# Altium integrated library TI_Logic_Flip-Flop,Latch,Register.IntLib: 2598 symbols (part 33 of 122)
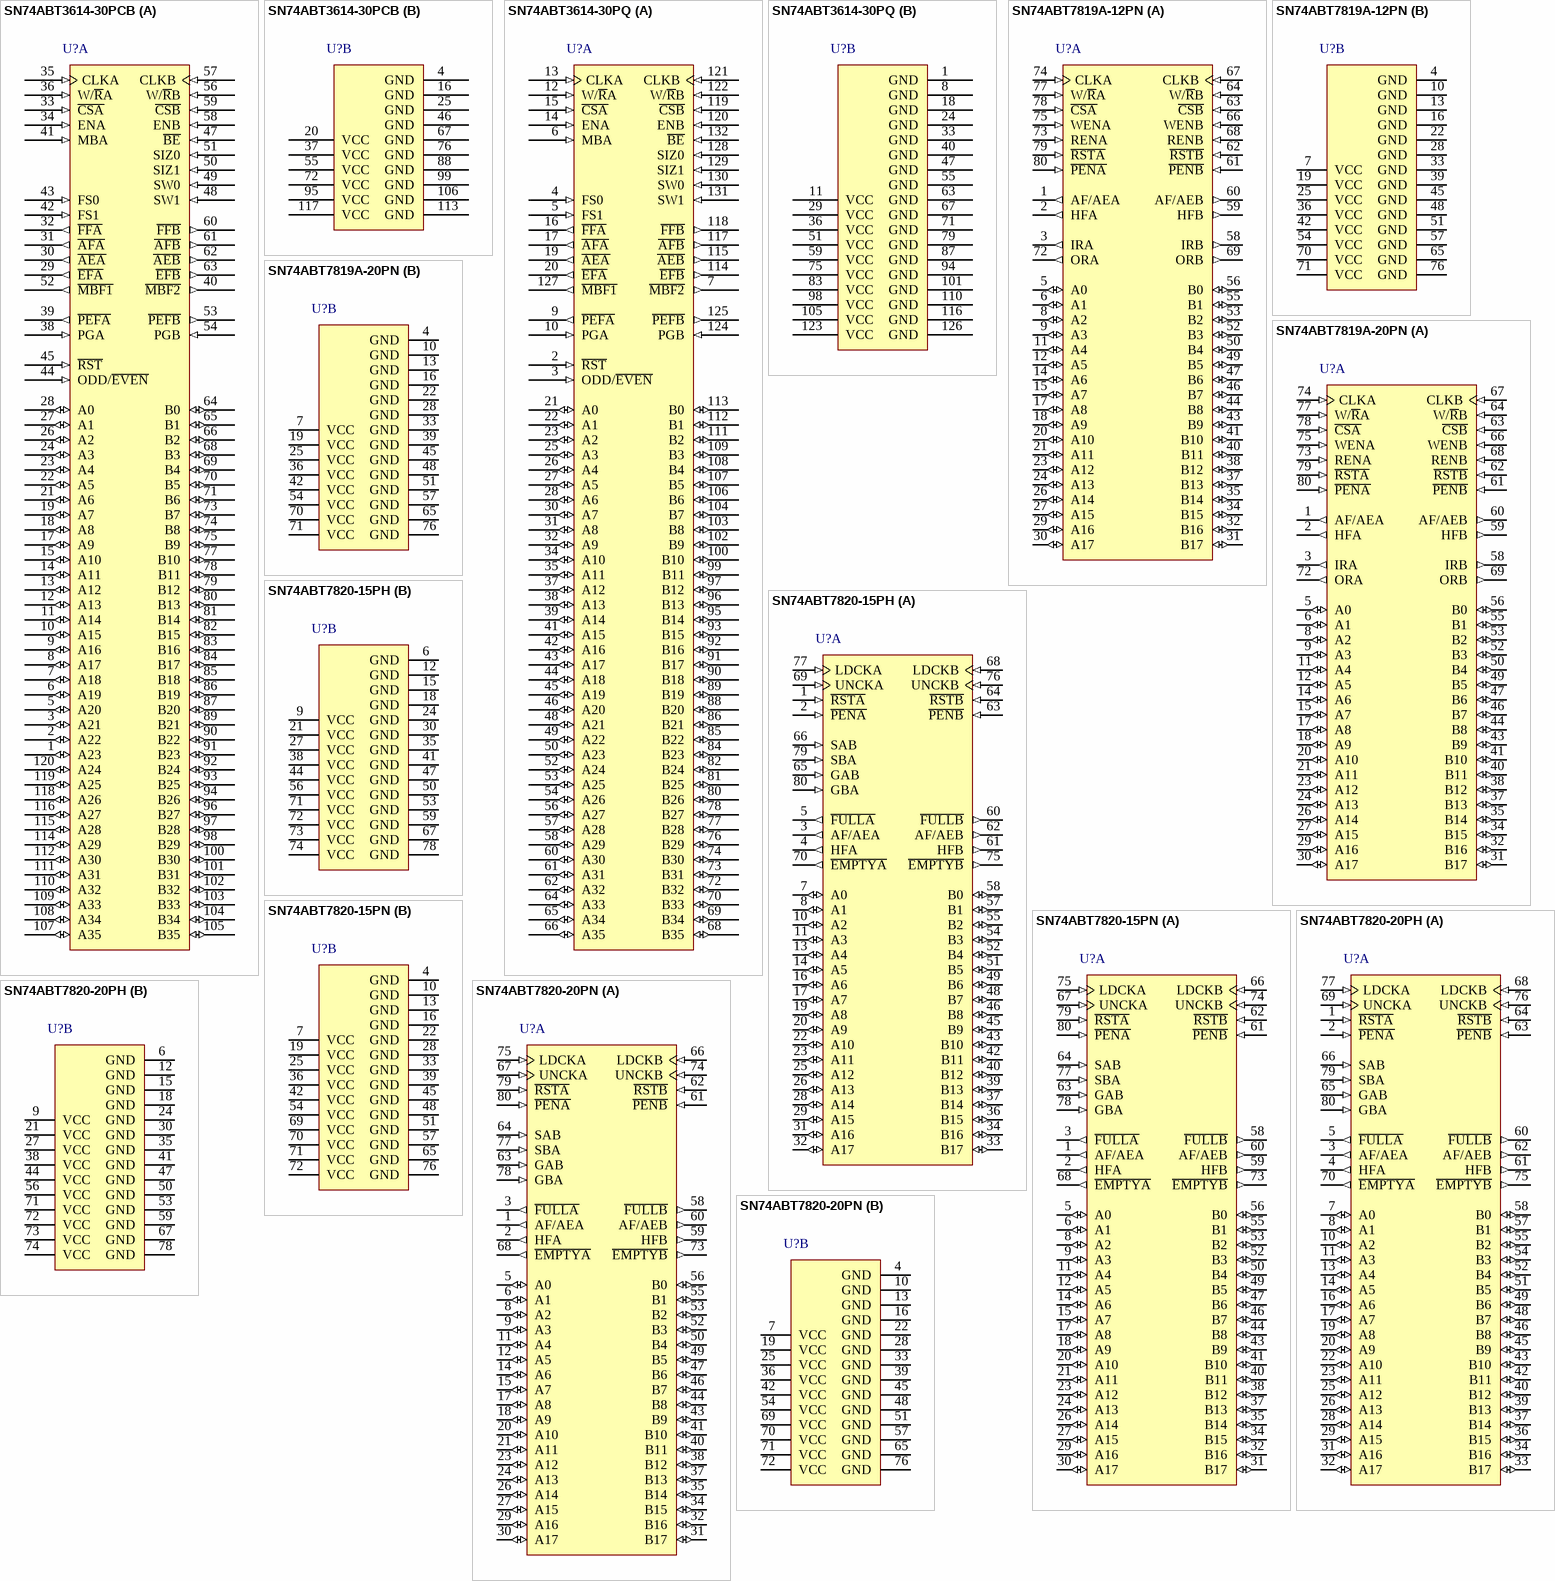
[diagram p171: symbols SN74ABT3614-30PCB to SN74ABT7820-20PN]

## SN74ABT7820-15PH
designator U?
512 x 18 x 2 bidirectional asynchronous FIFO memory, PH0080A, JEDEC TRAY (10+1); Generic Part Number: SN74ABT7820; Manufacturer: Texas Instruments; PartNumber: SN74ABT7820-15PH; Vcc range(V): 4.5 to 5.5; Fmax(MHz): 67; Voltage Nodes(V): 5; Sync/Async: A; Rating: Catalog; Output Drive(mA): -0.5; DatasheetVersion: SCAS206D; PackageReference: PH0080A; Depth: 512; Width: 18; ComponentLink1Description: Manufacturer URL; ComponentLink1URL: http://www.ti.com/; ComponentLink2Description: Datasheet; ComponentLink2URL: http://www.ti.com/lit/ds/symlink/sn74abt7820.pdf; ComponentLink3Description: Package Specification; ComponentLink3URL: http://www.ti.com/lit/ml/mqfp010/mqfp010.pdf
footprint PH0080A_N (QFP, 80-Leads, Body 20x14mm, Pitch 1mm, IPC Medium Density)
footprint PH0080A_M (QFP, 80-Leads, Body 20x14mm, Pitch 1mm, IPC Low Density)
footprint PH0080A_L (QFP, 80-Leads, Body 20x14mm, Pitch 1mm, IPC High Density)
part A pins: 1 ~{RSTA} (in) "FIFO A reset. A low level on R\S\T\A\ resets FIFO A forcing E\M\P\T\Y\A\ low, HFA low, F\U\L\L\A\ high, and AF/AEA high.", 2 ~{PENA} (in) "FIFO A program enable. After reset and before a word is written into FIFO A, the binary value on A0-A7 is latched as an AF/AEA offset value when P\E\N\A\ is low and LDCKA is high.", 3 AF/AEA (out) "FIFO A almost-full/almost-empty flag. Depth-offset values can be programmed for AF/AEA or the default value of 128 can be used for both the almost-empty offset (X) and the almost-full offset (Y). AF/AEA is high when FIFO A (See Datasheet)", 4 HFA (out) "FIFO A half-full flag. HFA is high when FIFO A contains 256 or more words and is low when FIFO A contains 255 or fewer words. HFA is set low after FIFO A is reset.", 5 ~{FULLA} (out) "FIFO A full flag. F\U\L\L\A\ is low when FIFO A is full and high when FIFO A is not full. F\U\L\L\A\ is set high after FIFO A is reset.", 7 A0 (io) "Port-A data. The 18-bit bidirectional data port for side A.", 8 A1 (io) "Port-A data. The 18-bit bidirectional data port for side A.", 10 A2 (io) "Port-A data. The 18-bit bidirectional data port for side A.", 11 A3 (io) "Port-A data. The 18-bit bidirectional data port for side A.", 13 A4 (io) "Port-A data. The 18-bit bidirectional data port for side A.", 14 A5 (io) "Port-A data. The 18-bit bidirectional data port for side A.", 16 A6 (io) "Port-A data. The 18-bit bidirectional data port for side A.", 17 A7 (io) "Port-A data. The 18-bit bidirectional data port for side A.", 19 A8 (io) "Port-A data. The 18-bit bidirectional data port for side A.", 20 A9 (io) "Port-A data. The 18-bit bidirectional data port for side A.", 22 A10 (io) "Port-A data. The 18-bit bidirectional data port for side A.", 23 A11 (io) "Port-A data. The 18-bit bidirectional data port for side A.", 25 A12 (io) "Port-A data. The 18-bit bidirectional data port for side A.", 26 A13 (io) "Port-A data. The 18-bit bidirectional data port for side A.", 28 A14 (io) "Port-A data. The 18-bit bidirectional data port for side A.", 29 A15 (io) "Port-A data. The 18-bit bidirectional data port for side A.", 31 A16 (io) "Port-A data. The 18-bit bidirectional data port for side A.", 32 A17 (io) "Port-A data. The 18-bit bidirectional data port for side A.", 33 B17 (io) "Port-B data. The 18-bit bidirectional data port for side B.", 34 B16 (io) "Port-B data. The 18-bit bidirectional data port for side B.", 36 B15 (io) "Port-B data. The 18-bit bidirectional data port for side B.", 37 B14 (io) "Port-B data. The 18-bit bidirectional data port for side B.", 39 B13 (io) "Port-B data. The 18-bit bidirectional data port for side B.", 40 B12 (io) "Port-B data. The 18-bit bidirectional data port for side B.", 42 B11 (io) "Port-B data. The 18-bit bidirectional data port for side B.", 43 B10 (io) "Port-B data. The 18-bit bidirectional data port for side B.", 45 B9 (io) "Port-B data. The 18-bit bidirectional data port for side B.", 46 B8 (io) "Port-B data. The 18-bit bidirectional data port for side B.", 48 B7 (io) "Port-B data. The 18-bit bidirectional data port for side B.", 49 B6 (io) "Port-B data. The 18-bit bidirectional data port for side B.", 51 B5 (io) "Port-B data. The 18-bit bidirectional data port for side B.", 52 B4 (io) "Port-B data. The 18-bit bidirectional data port for side B.", 54 B3 (io) "Port-B data. The 18-bit bidirectional data port for side B.", 55 B2 (io) "Port-B data. The 18-bit bidirectional data port for side B.", 57 B1 (io) "Port-B data. The 18-bit bidirectional data port for side B.", 58 B0 (io) "Port-B data. The 18-bit bidirectional data port for side B.", 60 ~{FULLB} (out) "FIFO B full flag. F\U\L\L\B\ is low when FIFO B is full and high when FIFO B is not full. F\U\L\L\B\ is set high after FIFO B is reset.", 61 HFB (out) "FIFO B half-full flag. HFB is high when FIFO B contains 256 or more words and is low when FIFO B contains 255 or fewer words. HFB is set low after FIFO B is reset.", 62 AF/AEB (out) "FIFO B almost-full/almost-empty flag. Depth-offset values can be programmed for AF/AEB or the default value of 128 can be used for both the almost-empty offset (X) and the almost-full offset (Y). AF/AEB is high when FIFO B (See Datasheet)", 63 ~{PENB} (in) "FIFO B program enable. After reset and before a word is written into FIFO B, the binary value on B0-B7 is latched as an AF/AEB offset value when P\E\N\B\ is low and LDCKB is high.", 64 ~{RSTB} (in) "FIFO B reset. A low level on R\S\T\B\ resets FIFO B forcing E\M\P\T\Y\B\ low, HFB low, F\U\L\L\B\ high, and AF/AEB high.", 65 GAB (in) "Port-B output enable. B0-B17 outputs are active when GAB is high and in the high-impedance state when GAB is low.", 66 SAB (in) "Port-B read select. SAB selects the source of B0-B17 read data. A low level selects real-time data from A0-A17. A high level selects the FIFO A output.", 68 LDCKB (in) "FIFO B load clock. Data is written into FIFO B on a low-to-high transition of LDCKB when F\U\L\L\B\ is high. The first word written into an empty FIFO B is sent directly to the FIFO B data outputs.", 69 UNCKA (in) "FIFO A unload clock. Data is read from FIFO A on a low-to-high transition of UNCKA when E\M\P\T\Y\A\ is high.", 70 ~{EMPTYA} (out) "FIFO A empty flag. E\M\P\T\Y\A\ is low when FIFO A is empty and high when FIFO A is not empty. E\M\P\T\Y\A\ is set low after FIFO A is reset.", 75 ~{EMPTYB} (out) "FIFO B empty flag. E\M\P\T\Y\B\ is low when FIFO B is empty and high when FIFO B is not empty. E\M\P\T\Y\B\ is set low after FIFO B is reset.", 76 UNCKB (in) "FIFO B unload clock. Data is read from FIFO B on a low-to-high transition of UNCKB when E\M\P\T\Y\B\ is high.", 77 LDCKA (in) "FIFO A load clock. Data is written into FIFO A on a low-to-high transition of LDCKA when F\U\L\L\A\ is high. The first word written into an empty FIFO A is sent directly to the FIFO A data outputs.", 79 SBA (in) "Port-A read select. SBA selects the source of A0-A17 read data. A low level selects real-time data from B0 - B17. A high level selects the FIFO B output.", 80 GBA (in) "Port-A output enable. A0-A17 outputs are active when GBA is high and in the high-impedance state when GBA is low."
part B pins: 6 GND (power), 9 VCC (power), 12 GND (power), 15 GND (power), 18 GND (power), 21 VCC (power), 24 GND (power), 27 VCC (power), 30 GND (power), 35 GND (power), 38 VCC (power), 41 GND (power), 44 VCC (power), 47 GND (power), 50 GND (power), 53 GND (power), 56 VCC (power), 59 GND (power), 67 GND (power), 71 VCC (power), 72 VCC (power), 73 VCC (power), 74 VCC (power), 78 GND (power)

## SN74ABT7820-15PN
designator U?
512 x 18 x 2 bidirectional asynchronous FIFO memory, PN0080A, JEDEC TRAY (10+1); Generic Part Number: SN74ABT7820; Manufacturer: Texas Instruments; PartNumber: SN74ABT7820-15PN; Vcc range(V): 4.5 to 5.5; Fmax(MHz): 67; Voltage Nodes(V): 5; Sync/Async: A; Rating: Catalog; Output Drive(mA): -0.5; DatasheetVersion: SCAS206D; PackageReference: PN0080A; Depth: 512; Width: 18; Code_JEDEC: MS-026; ComponentLink1Description: Manufacturer URL; ComponentLink1URL: http://www.ti.com/; ComponentLink2Description: Datasheet; ComponentLink2URL: http://www.ti.com/lit/ds/symlink/sn74abt7820.pdf; ComponentLink3Description: Package Specification; ComponentLink3URL: http://www.ti.com/lit/ml/mtqf010a/mtqf010a.pdf
footprint PN0080A_N (QFP, 80-Leads, Body 12x12mm, Pitch 0.5mm, IPC Medium Density)
footprint PN0080A_M (QFP, 80-Leads, Body 12x12mm, Pitch 0.5mm, IPC Low Density)
footprint PN0080A_L (QFP, 80-Leads, Body 12x12mm, Pitch 0.5mm, IPC High Density)
part A pins: 1 AF/AEA (out) "FIFO A almost-full/almost-empty flag. Depth-offset values can be programmed for AF/AEA or the default value of 128 can be used for both the almost-empty offset (X) and the almost-full offset (Y). AF/AEA is high when FIFO A (See Datasheet)", 2 HFA (out) "FIFO A half-full flag. HFA is high when FIFO A contains 256 or more words and is low when FIFO A contains 255 or fewer words. HFA is set low after FIFO A is reset.", 3 ~{FULLA} (out) "FIFO A full flag. F\U\L\L\A\ is low when FIFO A is full and high when FIFO A is not full. F\U\L\L\A\ is set high after FIFO A is reset.", 5 A0 (io) "Port-A data. The 18-bit bidirectional data port for side A.", 6 A1 (io) "Port-A data. The 18-bit bidirectional data port for side A.", 8 A2 (io) "Port-A data. The 18-bit bidirectional data port for side A.", 9 A3 (io) "Port-A data. The 18-bit bidirectional data port for side A.", 11 A4 (io) "Port-A data. The 18-bit bidirectional data port for side A.", 12 A5 (io) "Port-A data. The 18-bit bidirectional data port for side A.", 14 A6 (io) "Port-A data. The 18-bit bidirectional data port for side A.", 15 A7 (io) "Port-A data. The 18-bit bidirectional data port for side A.", 17 A8 (io) "Port-A data. The 18-bit bidirectional data port for side A.", 18 A9 (io) "Port-A data. The 18-bit bidirectional data port for side A.", 20 A10 (io) "Port-A data. The 18-bit bidirectional data port for side A.", 21 A11 (io) "Port-A data. The 18-bit bidirectional data port for side A.", 23 A12 (io) "Port-A data. The 18-bit bidirectional data port for side A.", 24 A13 (io) "Port-A data. The 18-bit bidirectional data port for side A.", 26 A14 (io) "Port-A data. The 18-bit bidirectional data port for side A.", 27 A15 (io) "Port-A data. The 18-bit bidirectional data port for side A.", 29 A16 (io) "Port-A data. The 18-bit bidirectional data port for side A.", 30 A17 (io) "Port-A data. The 18-bit bidirectional data port for side A.", 31 B17 (io) "Port-B data. The 18-bit bidirectional data port for side B.", 32 B16 (io) "Port-B data. The 18-bit bidirectional data port for side B.", 34 B15 (io) "Port-B data. The 18-bit bidirectional data port for side B.", 35 B14 (io) "Port-B data. The 18-bit bidirectional data port for side B.", 37 B13 (io) "Port-B data. The 18-bit bidirectional data port for side B.", 38 B12 (io) "Port-B data. The 18-bit bidirectional data port for side B.", 40 B11 (io) "Port-B data. The 18-bit bidirectional data port for side B.", 41 B10 (io) "Port-B data. The 18-bit bidirectional data port for side B.", 43 B9 (io) "Port-B data. The 18-bit bidirectional data port for side B.", 44 B8 (io) "Port-B data. The 18-bit bidirectional data port for side B.", 46 B7 (io) "Port-B data. The 18-bit bidirectional data port for side B.", 47 B6 (io) "Port-B data. The 18-bit bidirectional data port for side B.", 49 B5 (io) "Port-B data. The 18-bit bidirectional data port for side B.", 50 B4 (io) "Port-B data. The 18-bit bidirectional data port for side B.", 52 B3 (io) "Port-B data. The 18-bit bidirectional data port for side B.", 53 B2 (io) "Port-B data. The 18-bit bidirectional data port for side B.", 55 B1 (io) "Port-B data. The 18-bit bidirectional data port for side B.", 56 B0 (io) "Port-B data. The 18-bit bidirectional data port for side B.", 58 ~{FULLB} (out) "FIFO B full flag. F\U\L\L\B\ is low when FIFO B is full and high when FIFO B is not full. F\U\L\L\B\ is set high after FIFO B is reset.", 59 HFB (out) "FIFO B half-full flag. HFB is high when FIFO B contains 256 or more words and is low when FIFO B contains 255 or fewer words. HFB is set low after FIFO B is reset.", 60 AF/AEB (out) "FIFO B almost-full/almost-empty flag. Depth-offset values can be programmed for AF/AEB or the default value of 128 can be used for both the almost-empty offset (X) and the almost-full offset (Y). AF/AEB is high when FIFO B (See Datasheet)", 61 ~{PENB} (in) "FIFO B program enable. After reset and before a word is written into FIFO B, the binary value on B0-B7 is latched as an AF/AEB offset value when P\E\N\B\ is low and LDCKB is high.", 62 ~{RSTB} (in) "FIFO B reset. A low level on R\S\T\B\ resets FIFO B forcing E\M\P\T\Y\B\ low, HFB low, F\U\L\L\B\ high, and AF/AEB high.", 63 GAB (in) "Port-B output enable. B0-B17 outputs are active when GAB is high and in the high-impedance state when GAB is low.", 64 SAB (in) "Port-B read select. SAB selects the source of B0-B17 read data. A low level selects real-time data from A0-A17. A high level selects the FIFO A output.", 66 LDCKB (in) "FIFO B load clock. Data is written into FIFO B on a low-to-high transition of LDCKB when F\U\L\L\B\ is high. The first word written into an empty FIFO B is sent directly to the FIFO B data outputs.", 67 UNCKA (in) "FIFO A unload clock. Data is read from FIFO A on a low-to-high transition of UNCKA when E\M\P\T\Y\A\ is high.", 68 ~{EMPTYA} (out) "FIFO A empty flag. E\M\P\T\Y\A\ is low when FIFO A is empty and high when FIFO A is not empty. E\M\P\T\Y\A\ is set low after FIFO A is reset.", 73 ~{EMPTYB} (out) "FIFO B empty flag. E\M\P\T\Y\B\ is low when FIFO B is empty and high when FIFO B is not empty. E\M\P\T\Y\B\ is set low after FIFO B is reset.", 74 UNCKB (in) "FIFO B unload clock. Data is read from FIFO B on a low-to-high transition of UNCKB when E\M\P\T\Y\B\ is high.", 75 LDCKA (in) "FIFO A load clock. Data is written into FIFO A on a low-to-high transition of LDCKA when F\U\L\L\A\ is high. The first word written into an empty FIFO A is sent directly to the FIFO A data outputs.", 77 SBA (in) "Port-A read select. SBA selects the source of A0-A17 read data. A low level selects real-time data from B0 - B17. A high level selects the FIFO B output.", 78 GBA (in) "Port-A output enable. A0-A17 outputs are active when GBA is high and in the high-impedance state when GBA is low.", 79 ~{RSTA} (in) "FIFO A reset. A low level on R\S\T\A\ resets FIFO A forcing E\M\P\T\Y\A\ low, HFA low, F\U\L\L\A\ high, and AF/AEA high.", 80 ~{PENA} (in) "FIFO A program enable. After reset and before a word is written into FIFO A, the binary value on A0-A7 is latched as an AF/AEA offset value when P\E\N\A\ is low and LDCKA is high."
part B pins: 4 GND (power), 7 VCC (power), 10 GND (power), 13 GND (power), 16 GND (power), 19 VCC (power), 22 GND (power), 25 VCC (power), 28 GND (power), 33 GND (power), 36 VCC (power), 39 GND (power), 42 VCC (power), 45 GND (power), 48 GND (power), 51 GND (power), 54 VCC (power), 57 GND (power), 65 GND (power), 69 VCC (power), 70 VCC (power), 71 VCC (power), 72 VCC (power), 76 GND (power)

## SN74ABT7820-20PH
designator U?
512 x 18 x 2 bidirectional asynchronous FIFO memory, PH0080A, JEDEC TRAY (10+1); Generic Part Number: SN74ABT7820; Manufacturer: Texas Instruments; PartNumber: SN74ABT7820-20PH; Vcc range(V): 4.5 to 5.5; Fmax(MHz): 67; Voltage Nodes(V): 5; Sync/Async: A; Rating: Catalog; Output Drive(mA): -0.5; DatasheetVersion: SCAS206D; PackageReference: PH0080A; Depth: 512; Width: 18; ComponentLink1Description: Manufacturer URL; ComponentLink1URL: http://www.ti.com/; ComponentLink2Description: Datasheet; ComponentLink2URL: http://www.ti.com/lit/ds/symlink/sn74abt7820.pdf; ComponentLink3Description: Package Specification; ComponentLink3URL: http://www.ti.com/lit/ml/mqfp010/mqfp010.pdf
footprint PH0080A_N (QFP, 80-Leads, Body 20x14mm, Pitch 1mm, IPC Medium Density)
footprint PH0080A_M (QFP, 80-Leads, Body 20x14mm, Pitch 1mm, IPC Low Density)
footprint PH0080A_L (QFP, 80-Leads, Body 20x14mm, Pitch 1mm, IPC High Density)
part A pins: 1 ~{RSTA} (in) "FIFO A reset. A low level on R\S\T\A\ resets FIFO A forcing E\M\P\T\Y\A\ low, HFA low, F\U\L\L\A\ high, and AF/AEA high.", 2 ~{PENA} (in) "FIFO A program enable. After reset and before a word is written into FIFO A, the binary value on A0-A7 is latched as an AF/AEA offset value when P\E\N\A\ is low and LDCKA is high.", 3 AF/AEA (out) "FIFO A almost-full/almost-empty flag. Depth-offset values can be programmed for AF/AEA or the default value of 128 can be used for both the almost-empty offset (X) and the almost-full offset (Y). AF/AEA is high when FIFO A (See Datasheet)", 4 HFA (out) "FIFO A half-full flag. HFA is high when FIFO A contains 256 or more words and is low when FIFO A contains 255 or fewer words. HFA is set low after FIFO A is reset.", 5 ~{FULLA} (out) "FIFO A full flag. F\U\L\L\A\ is low when FIFO A is full and high when FIFO A is not full. F\U\L\L\A\ is set high after FIFO A is reset.", 7 A0 (io) "Port-A data. The 18-bit bidirectional data port for side A.", 8 A1 (io) "Port-A data. The 18-bit bidirectional data port for side A.", 10 A2 (io) "Port-A data. The 18-bit bidirectional data port for side A.", 11 A3 (io) "Port-A data. The 18-bit bidirectional data port for side A.", 13 A4 (io) "Port-A data. The 18-bit bidirectional data port for side A.", 14 A5 (io) "Port-A data. The 18-bit bidirectional data port for side A.", 16 A6 (io) "Port-A data. The 18-bit bidirectional data port for side A.", 17 A7 (io) "Port-A data. The 18-bit bidirectional data port for side A.", 19 A8 (io) "Port-A data. The 18-bit bidirectional data port for side A.", 20 A9 (io) "Port-A data. The 18-bit bidirectional data port for side A.", 22 A10 (io) "Port-A data. The 18-bit bidirectional data port for side A.", 23 A11 (io) "Port-A data. The 18-bit bidirectional data port for side A.", 25 A12 (io) "Port-A data. The 18-bit bidirectional data port for side A.", 26 A13 (io) "Port-A data. The 18-bit bidirectional data port for side A.", 28 A14 (io) "Port-A data. The 18-bit bidirectional data port for side A.", 29 A15 (io) "Port-A data. The 18-bit bidirectional data port for side A.", 31 A16 (io) "Port-A data. The 18-bit bidirectional data port for side A.", 32 A17 (io) "Port-A data. The 18-bit bidirectional data port for side A.", 33 B17 (io) "Port-B data. The 18-bit bidirectional data port for side B.", 34 B16 (io) "Port-B data. The 18-bit bidirectional data port for side B.", 36 B15 (io) "Port-B data. The 18-bit bidirectional data port for side B.", 37 B14 (io) "Port-B data. The 18-bit bidirectional data port for side B.", 39 B13 (io) "Port-B data. The 18-bit bidirectional data port for side B.", 40 B12 (io) "Port-B data. The 18-bit bidirectional data port for side B.", 42 B11 (io) "Port-B data. The 18-bit bidirectional data port for side B.", 43 B10 (io) "Port-B data. The 18-bit bidirectional data port for side B.", 45 B9 (io) "Port-B data. The 18-bit bidirectional data port for side B.", 46 B8 (io) "Port-B data. The 18-bit bidirectional data port for side B.", 48 B7 (io) "Port-B data. The 18-bit bidirectional data port for side B.", 49 B6 (io) "Port-B data. The 18-bit bidirectional data port for side B.", 51 B5 (io) "Port-B data. The 18-bit bidirectional data port for side B.", 52 B4 (io) "Port-B data. The 18-bit bidirectional data port for side B.", 54 B3 (io) "Port-B data. The 18-bit bidirectional data port for side B.", 55 B2 (io) "Port-B data. The 18-bit bidirectional data port for side B.", 57 B1 (io) "Port-B data. The 18-bit bidirectional data port for side B.", 58 B0 (io) "Port-B data. The 18-bit bidirectional data port for side B.", 60 ~{FULLB} (out) "FIFO B full flag. F\U\L\L\B\ is low when FIFO B is full and high when FIFO B is not full. F\U\L\L\B\ is set high after FIFO B is reset.", 61 HFB (out) "FIFO B half-full flag. HFB is high when FIFO B contains 256 or more words and is low when FIFO B contains 255 or fewer words. HFB is set low after FIFO B is reset.", 62 AF/AEB (out) "FIFO B almost-full/almost-empty flag. Depth-offset values can be programmed for AF/AEB or the default value of 128 can be used for both the almost-empty offset (X) and the almost-full offset (Y). AF/AEB is high when FIFO B (See Datasheet)", 63 ~{PENB} (in) "FIFO B program enable. After reset and before a word is written into FIFO B, the binary value on B0-B7 is latched as an AF/AEB offset value when P\E\N\B\ is low and LDCKB is high.", 64 ~{RSTB} (in) "FIFO B reset. A low level on R\S\T\B\ resets FIFO B forcing E\M\P\T\Y\B\ low, HFB low, F\U\L\L\B\ high, and AF/AEB high.", 65 GAB (in) "Port-B output enable. B0-B17 outputs are active when GAB is high and in the high-impedance state when GAB is low.", 66 SAB (in) "Port-B read select. SAB selects the source of B0-B17 read data. A low level selects real-time data from A0-A17. A high level selects the FIFO A output.", 68 LDCKB (in) "FIFO B load clock. Data is written into FIFO B on a low-to-high transition of LDCKB when F\U\L\L\B\ is high. The first word written into an empty FIFO B is sent directly to the FIFO B data outputs.", 69 UNCKA (in) "FIFO A unload clock. Data is read from FIFO A on a low-to-high transition of UNCKA when E\M\P\T\Y\A\ is high.", 70 ~{EMPTYA} (out) "FIFO A empty flag. E\M\P\T\Y\A\ is low when FIFO A is empty and high when FIFO A is not empty. E\M\P\T\Y\A\ is set low after FIFO A is reset.", 75 ~{EMPTYB} (out) "FIFO B empty flag. E\M\P\T\Y\B\ is low when FIFO B is empty and high when FIFO B is not empty. E\M\P\T\Y\B\ is set low after FIFO B is reset.", 76 UNCKB (in) "FIFO B unload clock. Data is read from FIFO B on a low-to-high transition of UNCKB when E\M\P\T\Y\B\ is high.", 77 LDCKA (in) "FIFO A load clock. Data is written into FIFO A on a low-to-high transition of LDCKA when F\U\L\L\A\ is high. The first word written into an empty FIFO A is sent directly to the FIFO A data outputs.", 79 SBA (in) "Port-A read select. SBA selects the source of A0-A17 read data. A low level selects real-time data from B0 - B17. A high level selects the FIFO B output.", 80 GBA (in) "Port-A output enable. A0-A17 outputs are active when GBA is high and in the high-impedance state when GBA is low."
part B pins: 6 GND (power), 9 VCC (power), 12 GND (power), 15 GND (power), 18 GND (power), 21 VCC (power), 24 GND (power), 27 VCC (power), 30 GND (power), 35 GND (power), 38 VCC (power), 41 GND (power), 44 VCC (power), 47 GND (power), 50 GND (power), 53 GND (power), 56 VCC (power), 59 GND (power), 67 GND (power), 71 VCC (power), 72 VCC (power), 73 VCC (power), 74 VCC (power), 78 GND (power)

## SN74ABT7820-20PN
designator U?
512 x 18 x 2 bidirectional asynchronous FIFO memory, PN0080A, JEDEC TRAY (10+1); Generic Part Number: SN74ABT7820; Manufacturer: Texas Instruments; PartNumber: SN74ABT7820-20PN; Vcc range(V): 4.5 to 5.5; Fmax(MHz): 67; Voltage Nodes(V): 5; Sync/Async: A; Rating: Catalog; Output Drive(mA): -0.5; DatasheetVersion: SCAS206D; PackageReference: PN0080A; Depth: 512; Width: 18; Code_JEDEC: MS-026; ComponentLink1Description: Manufacturer URL; ComponentLink1URL: http://www.ti.com/; ComponentLink2Description: Datasheet; ComponentLink2URL: http://www.ti.com/lit/ds/symlink/sn74abt7820.pdf; ComponentLink3Description: Package Specification; ComponentLink3URL: http://www.ti.com/lit/ml/mtqf010a/mtqf010a.pdf
footprint PN0080A_N (QFP, 80-Leads, Body 12x12mm, Pitch 0.5mm, IPC Medium Density)
footprint PN0080A_M (QFP, 80-Leads, Body 12x12mm, Pitch 0.5mm, IPC Low Density)
footprint PN0080A_L (QFP, 80-Leads, Body 12x12mm, Pitch 0.5mm, IPC High Density)
part A pins: 1 AF/AEA (out) "FIFO A almost-full/almost-empty flag. Depth-offset values can be programmed for AF/AEA or the default value of 128 can be used for both the almost-empty offset (X) and the almost-full offset (Y). AF/AEA is high when FIFO A (See Datasheet)", 2 HFA (out) "FIFO A half-full flag. HFA is high when FIFO A contains 256 or more words and is low when FIFO A contains 255 or fewer words. HFA is set low after FIFO A is reset.", 3 ~{FULLA} (out) "FIFO A full flag. F\U\L\L\A\ is low when FIFO A is full and high when FIFO A is not full. F\U\L\L\A\ is set high after FIFO A is reset.", 5 A0 (io) "Port-A data. The 18-bit bidirectional data port for side A.", 6 A1 (io) "Port-A data. The 18-bit bidirectional data port for side A.", 8 A2 (io) "Port-A data. The 18-bit bidirectional data port for side A.", 9 A3 (io) "Port-A data. The 18-bit bidirectional data port for side A.", 11 A4 (io) "Port-A data. The 18-bit bidirectional data port for side A.", 12 A5 (io) "Port-A data. The 18-bit bidirectional data port for side A.", 14 A6 (io) "Port-A data. The 18-bit bidirectional data port for side A.", 15 A7 (io) "Port-A data. The 18-bit bidirectional data port for side A.", 17 A8 (io) "Port-A data. The 18-bit bidirectional data port for side A.", 18 A9 (io) "Port-A data. The 18-bit bidirectional data port for side A.", 20 A10 (io) "Port-A data. The 18-bit bidirectional data port for side A.", 21 A11 (io) "Port-A data. The 18-bit bidirectional data port for side A.", 23 A12 (io) "Port-A data. The 18-bit bidirectional data port for side A.", 24 A13 (io) "Port-A data. The 18-bit bidirectional data port for side A.", 26 A14 (io) "Port-A data. The 18-bit bidirectional data port for side A.", 27 A15 (io) "Port-A data. The 18-bit bidirectional data port for side A.", 29 A16 (io) "Port-A data. The 18-bit bidirectional data port for side A.", 30 A17 (io) "Port-A data. The 18-bit bidirectional data port for side A.", 31 B17 (io) "Port-B data. The 18-bit bidirectional data port for side B.", 32 B16 (io) "Port-B data. The 18-bit bidirectional data port for side B.", 34 B15 (io) "Port-B data. The 18-bit bidirectional data port for side B.", 35 B14 (io) "Port-B data. The 18-bit bidirectional data port for side B.", 37 B13 (io) "Port-B data. The 18-bit bidirectional data port for side B.", 38 B12 (io) "Port-B data. The 18-bit bidirectional data port for side B.", 40 B11 (io) "Port-B data. The 18-bit bidirectional data port for side B.", 41 B10 (io) "Port-B data. The 18-bit bidirectional data port for side B.", 43 B9 (io) "Port-B data. The 18-bit bidirectional data port for side B.", 44 B8 (io) "Port-B data. The 18-bit bidirectional data port for side B.", 46 B7 (io) "Port-B data. The 18-bit bidirectional data port for side B.", 47 B6 (io) "Port-B data. The 18-bit bidirectional data port for side B.", 49 B5 (io) "Port-B data. The 18-bit bidirectional data port for side B.", 50 B4 (io) "Port-B data. The 18-bit bidirectional data port for side B.", 52 B3 (io) "Port-B data. The 18-bit bidirectional data port for side B.", 53 B2 (io) "Port-B data. The 18-bit bidirectional data port for side B.", 55 B1 (io) "Port-B data. The 18-bit bidirectional data port for side B.", 56 B0 (io) "Port-B data. The 18-bit bidirectional data port for side B.", 58 ~{FULLB} (out) "FIFO B full flag. F\U\L\L\B\ is low when FIFO B is full and high when FIFO B is not full. F\U\L\L\B\ is set high after FIFO B is reset.", 59 HFB (out) "FIFO B half-full flag. HFB is high when FIFO B contains 256 or more words and is low when FIFO B contains 255 or fewer words. HFB is set low after FIFO B is reset.", 60 AF/AEB (out) "FIFO B almost-full/almost-empty flag. Depth-offset values can be programmed for AF/AEB or the default value of 128 can be used for both the almost-empty offset (X) and the almost-full offset (Y). AF/AEB is high when FIFO B (See Datasheet)", 61 ~{PENB} (in) "FIFO B program enable. After reset and before a word is written into FIFO B, the binary value on B0-B7 is latched as an AF/AEB offset value when P\E\N\B\ is low and LDCKB is high.", 62 ~{RSTB} (in) "FIFO B reset. A low level on R\S\T\B\ resets FIFO B forcing E\M\P\T\Y\B\ low, HFB low, F\U\L\L\B\ high, and AF/AEB high.", 63 GAB (in) "Port-B output enable. B0-B17 outputs are active when GAB is high and in the high-impedance state when GAB is low.", 64 SAB (in) "Port-B read select. SAB selects the source of B0-B17 read data. A low level selects real-time data from A0-A17. A high level selects the FIFO A output.", 66 LDCKB (in) "FIFO B load clock. Data is written into FIFO B on a low-to-high transition of LDCKB when F\U\L\L\B\ is high. The first word written into an empty FIFO B is sent directly to the FIFO B data outputs.", 67 UNCKA (in) "FIFO A unload clock. Data is read from FIFO A on a low-to-high transition of UNCKA when E\M\P\T\Y\A\ is high.", 68 ~{EMPTYA} (out) "FIFO A empty flag. E\M\P\T\Y\A\ is low when FIFO A is empty and high when FIFO A is not empty. E\M\P\T\Y\A\ is set low after FIFO A is reset.", 73 ~{EMPTYB} (out) "FIFO B empty flag. E\M\P\T\Y\B\ is low when FIFO B is empty and high when FIFO B is not empty. E\M\P\T\Y\B\ is set low after FIFO B is reset.", 74 UNCKB (in) "FIFO B unload clock. Data is read from FIFO B on a low-to-high transition of UNCKB when E\M\P\T\Y\B\ is high.", 75 LDCKA (in) "FIFO A load clock. Data is written into FIFO A on a low-to-high transition of LDCKA when F\U\L\L\A\ is high. The first word written into an empty FIFO A is sent directly to the FIFO A data outputs.", 77 SBA (in) "Port-A read select. SBA selects the source of A0-A17 read data. A low level selects real-time data from B0 - B17. A high level selects the FIFO B output.", 78 GBA (in) "Port-A output enable. A0-A17 outputs are active when GBA is high and in the high-impedance state when GBA is low.", 79 ~{RSTA} (in) "FIFO A reset. A low level on R\S\T\A\ resets FIFO A forcing E\M\P\T\Y\A\ low, HFA low, F\U\L\L\A\ high, and AF/AEA high.", 80 ~{PENA} (in) "FIFO A program enable. After reset and before a word is written into FIFO A, the binary value on A0-A7 is latched as an AF/AEA offset value when P\E\N\A\ is low and LDCKA is high."
part B pins: 4 GND (power), 7 VCC (power), 10 GND (power), 13 GND (power), 16 GND (power), 19 VCC (power), 22 GND (power), 25 VCC (power), 28 GND (power), 33 GND (power), 36 VCC (power), 39 GND (power), 42 VCC (power), 45 GND (power), 48 GND (power), 51 GND (power), 54 VCC (power), 57 GND (power), 65 GND (power), 69 VCC (power), 70 VCC (power), 71 VCC (power), 72 VCC (power), 76 GND (power)

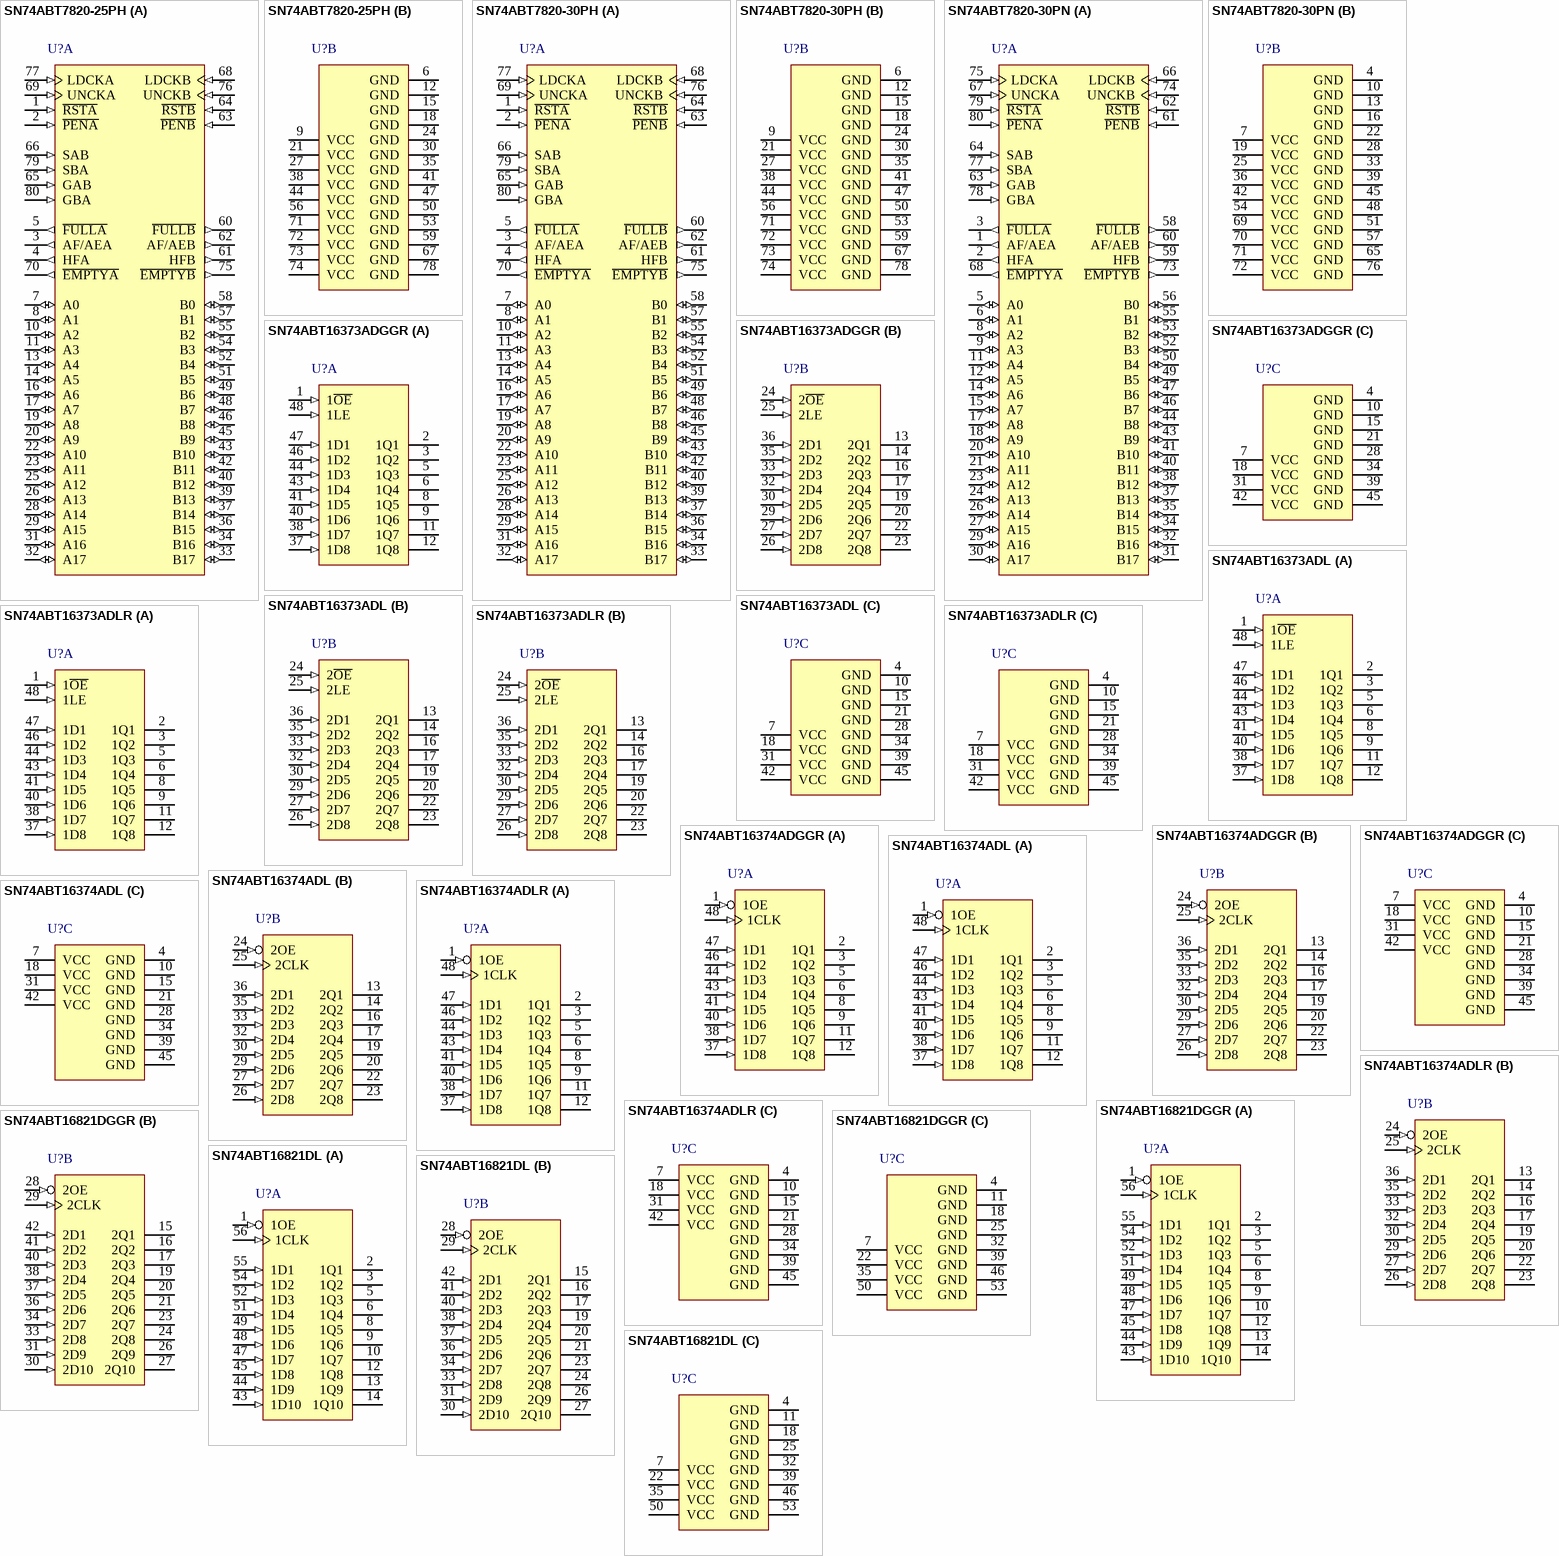
[diagram p45: symbols SN74ABT7820-25PH to SN74ABT16821DL]

## SN74ABT7820-25PH
designator U?
512 x 18 x 2 bidirectional asynchronous FIFO memory, PH0080A, JEDEC TRAY (10+1); Generic Part Number: SN74ABT7820; Manufacturer: Texas Instruments; PartNumber: SN74ABT7820-25PH; Vcc range(V): 4.5 to 5.5; Fmax(MHz): 67; Voltage Nodes(V): 5; Sync/Async: A; Rating: Catalog; Output Drive(mA): -0.5; DatasheetVersion: SCAS206D; PackageReference: PH0080A; Depth: 512; Width: 18; ComponentLink1Description: Manufacturer URL; ComponentLink1URL: http://www.ti.com/; ComponentLink2Description: Datasheet; ComponentLink2URL: http://www.ti.com/lit/ds/symlink/sn74abt7820.pdf; ComponentLink3Description: Package Specification; ComponentLink3URL: http://www.ti.com/lit/ml/mqfp010/mqfp010.pdf
footprint PH0080A_N (QFP, 80-Leads, Body 20x14mm, Pitch 1mm, IPC Medium Density)
footprint PH0080A_M (QFP, 80-Leads, Body 20x14mm, Pitch 1mm, IPC Low Density)
footprint PH0080A_L (QFP, 80-Leads, Body 20x14mm, Pitch 1mm, IPC High Density)
part A pins: 1 ~{RSTA} (in) "FIFO A reset. A low level on R\S\T\A\ resets FIFO A forcing E\M\P\T\Y\A\ low, HFA low, F\U\L\L\A\ high, and AF/AEA high.", 2 ~{PENA} (in) "FIFO A program enable. After reset and before a word is written into FIFO A, the binary value on A0-A7 is latched as an AF/AEA offset value when P\E\N\A\ is low and LDCKA is high.", 3 AF/AEA (out) "FIFO A almost-full/almost-empty flag. Depth-offset values can be programmed for AF/AEA or the default value of 128 can be used for both the almost-empty offset (X) and the almost-full offset (Y). AF/AEA is high when FIFO A (See Datasheet)", 4 HFA (out) "FIFO A half-full flag. HFA is high when FIFO A contains 256 or more words and is low when FIFO A contains 255 or fewer words. HFA is set low after FIFO A is reset.", 5 ~{FULLA} (out) "FIFO A full flag. F\U\L\L\A\ is low when FIFO A is full and high when FIFO A is not full. F\U\L\L\A\ is set high after FIFO A is reset.", 7 A0 (io) "Port-A data. The 18-bit bidirectional data port for side A.", 8 A1 (io) "Port-A data. The 18-bit bidirectional data port for side A.", 10 A2 (io) "Port-A data. The 18-bit bidirectional data port for side A.", 11 A3 (io) "Port-A data. The 18-bit bidirectional data port for side A.", 13 A4 (io) "Port-A data. The 18-bit bidirectional data port for side A.", 14 A5 (io) "Port-A data. The 18-bit bidirectional data port for side A.", 16 A6 (io) "Port-A data. The 18-bit bidirectional data port for side A.", 17 A7 (io) "Port-A data. The 18-bit bidirectional data port for side A.", 19 A8 (io) "Port-A data. The 18-bit bidirectional data port for side A.", 20 A9 (io) "Port-A data. The 18-bit bidirectional data port for side A.", 22 A10 (io) "Port-A data. The 18-bit bidirectional data port for side A.", 23 A11 (io) "Port-A data. The 18-bit bidirectional data port for side A.", 25 A12 (io) "Port-A data. The 18-bit bidirectional data port for side A.", 26 A13 (io) "Port-A data. The 18-bit bidirectional data port for side A.", 28 A14 (io) "Port-A data. The 18-bit bidirectional data port for side A.", 29 A15 (io) "Port-A data. The 18-bit bidirectional data port for side A.", 31 A16 (io) "Port-A data. The 18-bit bidirectional data port for side A.", 32 A17 (io) "Port-A data. The 18-bit bidirectional data port for side A.", 33 B17 (io) "Port-B data. The 18-bit bidirectional data port for side B.", 34 B16 (io) "Port-B data. The 18-bit bidirectional data port for side B.", 36 B15 (io) "Port-B data. The 18-bit bidirectional data port for side B.", 37 B14 (io) "Port-B data. The 18-bit bidirectional data port for side B.", 39 B13 (io) "Port-B data. The 18-bit bidirectional data port for side B.", 40 B12 (io) "Port-B data. The 18-bit bidirectional data port for side B.", 42 B11 (io) "Port-B data. The 18-bit bidirectional data port for side B.", 43 B10 (io) "Port-B data. The 18-bit bidirectional data port for side B.", 45 B9 (io) "Port-B data. The 18-bit bidirectional data port for side B.", 46 B8 (io) "Port-B data. The 18-bit bidirectional data port for side B.", 48 B7 (io) "Port-B data. The 18-bit bidirectional data port for side B.", 49 B6 (io) "Port-B data. The 18-bit bidirectional data port for side B.", 51 B5 (io) "Port-B data. The 18-bit bidirectional data port for side B.", 52 B4 (io) "Port-B data. The 18-bit bidirectional data port for side B.", 54 B3 (io) "Port-B data. The 18-bit bidirectional data port for side B.", 55 B2 (io) "Port-B data. The 18-bit bidirectional data port for side B.", 57 B1 (io) "Port-B data. The 18-bit bidirectional data port for side B.", 58 B0 (io) "Port-B data. The 18-bit bidirectional data port for side B.", 60 ~{FULLB} (out) "FIFO B full flag. F\U\L\L\B\ is low when FIFO B is full and high when FIFO B is not full. F\U\L\L\B\ is set high after FIFO B is reset.", 61 HFB (out) "FIFO B half-full flag. HFB is high when FIFO B contains 256 or more words and is low when FIFO B contains 255 or fewer words. HFB is set low after FIFO B is reset.", 62 AF/AEB (out) "FIFO B almost-full/almost-empty flag. Depth-offset values can be programmed for AF/AEB or the default value of 128 can be used for both the almost-empty offset (X) and the almost-full offset (Y). AF/AEB is high when FIFO B (See Datasheet)", 63 ~{PENB} (in) "FIFO B program enable. After reset and before a word is written into FIFO B, the binary value on B0-B7 is latched as an AF/AEB offset value when P\E\N\B\ is low and LDCKB is high.", 64 ~{RSTB} (in) "FIFO B reset. A low level on R\S\T\B\ resets FIFO B forcing E\M\P\T\Y\B\ low, HFB low, F\U\L\L\B\ high, and AF/AEB high.", 65 GAB (in) "Port-B output enable. B0-B17 outputs are active when GAB is high and in the high-impedance state when GAB is low.", 66 SAB (in) "Port-B read select. SAB selects the source of B0-B17 read data. A low level selects real-time data from A0-A17. A high level selects the FIFO A output.", 68 LDCKB (in) "FIFO B load clock. Data is written into FIFO B on a low-to-high transition of LDCKB when F\U\L\L\B\ is high. The first word written into an empty FIFO B is sent directly to the FIFO B data outputs.", 69 UNCKA (in) "FIFO A unload clock. Data is read from FIFO A on a low-to-high transition of UNCKA when E\M\P\T\Y\A\ is high.", 70 ~{EMPTYA} (out) "FIFO A empty flag. E\M\P\T\Y\A\ is low when FIFO A is empty and high when FIFO A is not empty. E\M\P\T\Y\A\ is set low after FIFO A is reset.", 75 ~{EMPTYB} (out) "FIFO B empty flag. E\M\P\T\Y\B\ is low when FIFO B is empty and high when FIFO B is not empty. E\M\P\T\Y\B\ is set low after FIFO B is reset.", 76 UNCKB (in) "FIFO B unload clock. Data is read from FIFO B on a low-to-high transition of UNCKB when E\M\P\T\Y\B\ is high.", 77 LDCKA (in) "FIFO A load clock. Data is written into FIFO A on a low-to-high transition of LDCKA when F\U\L\L\A\ is high. The first word written into an empty FIFO A is sent directly to the FIFO A data outputs.", 79 SBA (in) "Port-A read select. SBA selects the source of A0-A17 read data. A low level selects real-time data from B0 - B17. A high level selects the FIFO B output.", 80 GBA (in) "Port-A output enable. A0-A17 outputs are active when GBA is high and in the high-impedance state when GBA is low."
part B pins: 6 GND (power), 9 VCC (power), 12 GND (power), 15 GND (power), 18 GND (power), 21 VCC (power), 24 GND (power), 27 VCC (power), 30 GND (power), 35 GND (power), 38 VCC (power), 41 GND (power), 44 VCC (power), 47 GND (power), 50 GND (power), 53 GND (power), 56 VCC (power), 59 GND (power), 67 GND (power), 71 VCC (power), 72 VCC (power), 73 VCC (power), 74 VCC (power), 78 GND (power)

## SN74ABT7820-30PH
designator U?
512 x 18 x 2 bidirectional asynchronous FIFO memory, PH0080A, JEDEC TRAY (10+1); Generic Part Number: SN74ABT7820; Manufacturer: Texas Instruments; PartNumber: SN74ABT7820-30PH; Vcc range(V): 4.5 to 5.5; Fmax(MHz): 67; Voltage Nodes(V): 5; Sync/Async: A; Rating: Catalog; Output Drive(mA): -0.5; DatasheetVersion: SCAS206D; PackageReference: PH0080A; Depth: 512; Width: 18; ComponentLink1Description: Manufacturer URL; ComponentLink1URL: http://www.ti.com/; ComponentLink2Description: Datasheet; ComponentLink2URL: http://www.ti.com/lit/ds/symlink/sn74abt7820.pdf; ComponentLink3Description: Package Specification; ComponentLink3URL: http://www.ti.com/lit/ml/mqfp010/mqfp010.pdf
footprint PH0080A_N (QFP, 80-Leads, Body 20x14mm, Pitch 1mm, IPC Medium Density)
footprint PH0080A_M (QFP, 80-Leads, Body 20x14mm, Pitch 1mm, IPC Low Density)
footprint PH0080A_L (QFP, 80-Leads, Body 20x14mm, Pitch 1mm, IPC High Density)
part A pins: 1 ~{RSTA} (in) "FIFO A reset. A low level on R\S\T\A\ resets FIFO A forcing E\M\P\T\Y\A\ low, HFA low, F\U\L\L\A\ high, and AF/AEA high.", 2 ~{PENA} (in) "FIFO A program enable. After reset and before a word is written into FIFO A, the binary value on A0-A7 is latched as an AF/AEA offset value when P\E\N\A\ is low and LDCKA is high.", 3 AF/AEA (out) "FIFO A almost-full/almost-empty flag. Depth-offset values can be programmed for AF/AEA or the default value of 128 can be used for both the almost-empty offset (X) and the almost-full offset (Y). AF/AEA is high when FIFO A (See Datasheet)", 4 HFA (out) "FIFO A half-full flag. HFA is high when FIFO A contains 256 or more words and is low when FIFO A contains 255 or fewer words. HFA is set low after FIFO A is reset.", 5 ~{FULLA} (out) "FIFO A full flag. F\U\L\L\A\ is low when FIFO A is full and high when FIFO A is not full. F\U\L\L\A\ is set high after FIFO A is reset.", 7 A0 (io) "Port-A data. The 18-bit bidirectional data port for side A.", 8 A1 (io) "Port-A data. The 18-bit bidirectional data port for side A.", 10 A2 (io) "Port-A data. The 18-bit bidirectional data port for side A.", 11 A3 (io) "Port-A data. The 18-bit bidirectional data port for side A.", 13 A4 (io) "Port-A data. The 18-bit bidirectional data port for side A.", 14 A5 (io) "Port-A data. The 18-bit bidirectional data port for side A.", 16 A6 (io) "Port-A data. The 18-bit bidirectional data port for side A.", 17 A7 (io) "Port-A data. The 18-bit bidirectional data port for side A.", 19 A8 (io) "Port-A data. The 18-bit bidirectional data port for side A.", 20 A9 (io) "Port-A data. The 18-bit bidirectional data port for side A.", 22 A10 (io) "Port-A data. The 18-bit bidirectional data port for side A.", 23 A11 (io) "Port-A data. The 18-bit bidirectional data port for side A.", 25 A12 (io) "Port-A data. The 18-bit bidirectional data port for side A.", 26 A13 (io) "Port-A data. The 18-bit bidirectional data port for side A.", 28 A14 (io) "Port-A data. The 18-bit bidirectional data port for side A.", 29 A15 (io) "Port-A data. The 18-bit bidirectional data port for side A.", 31 A16 (io) "Port-A data. The 18-bit bidirectional data port for side A.", 32 A17 (io) "Port-A data. The 18-bit bidirectional data port for side A.", 33 B17 (io) "Port-B data. The 18-bit bidirectional data port for side B.", 34 B16 (io) "Port-B data. The 18-bit bidirectional data port for side B.", 36 B15 (io) "Port-B data. The 18-bit bidirectional data port for side B.", 37 B14 (io) "Port-B data. The 18-bit bidirectional data port for side B.", 39 B13 (io) "Port-B data. The 18-bit bidirectional data port for side B.", 40 B12 (io) "Port-B data. The 18-bit bidirectional data port for side B.", 42 B11 (io) "Port-B data. The 18-bit bidirectional data port for side B.", 43 B10 (io) "Port-B data. The 18-bit bidirectional data port for side B.", 45 B9 (io) "Port-B data. The 18-bit bidirectional data port for side B.", 46 B8 (io) "Port-B data. The 18-bit bidirectional data port for side B.", 48 B7 (io) "Port-B data. The 18-bit bidirectional data port for side B.", 49 B6 (io) "Port-B data. The 18-bit bidirectional data port for side B.", 51 B5 (io) "Port-B data. The 18-bit bidirectional data port for side B.", 52 B4 (io) "Port-B data. The 18-bit bidirectional data port for side B.", 54 B3 (io) "Port-B data. The 18-bit bidirectional data port for side B.", 55 B2 (io) "Port-B data. The 18-bit bidirectional data port for side B.", 57 B1 (io) "Port-B data. The 18-bit bidirectional data port for side B.", 58 B0 (io) "Port-B data. The 18-bit bidirectional data port for side B.", 60 ~{FULLB} (out) "FIFO B full flag. F\U\L\L\B\ is low when FIFO B is full and high when FIFO B is not full. F\U\L\L\B\ is set high after FIFO B is reset.", 61 HFB (out) "FIFO B half-full flag. HFB is high when FIFO B contains 256 or more words and is low when FIFO B contains 255 or fewer words. HFB is set low after FIFO B is reset.", 62 AF/AEB (out) "FIFO B almost-full/almost-empty flag. Depth-offset values can be programmed for AF/AEB or the default value of 128 can be used for both the almost-empty offset (X) and the almost-full offset (Y). AF/AEB is high when FIFO B (See Datasheet)", 63 ~{PENB} (in) "FIFO B program enable. After reset and before a word is written into FIFO B, the binary value on B0-B7 is latched as an AF/AEB offset value when P\E\N\B\ is low and LDCKB is high.", 64 ~{RSTB} (in) "FIFO B reset. A low level on R\S\T\B\ resets FIFO B forcing E\M\P\T\Y\B\ low, HFB low, F\U\L\L\B\ high, and AF/AEB high.", 65 GAB (in) "Port-B output enable. B0-B17 outputs are active when GAB is high and in the high-impedance state when GAB is low.", 66 SAB (in) "Port-B read select. SAB selects the source of B0-B17 read data. A low level selects real-time data from A0-A17. A high level selects the FIFO A output.", 68 LDCKB (in) "FIFO B load clock. Data is written into FIFO B on a low-to-high transition of LDCKB when F\U\L\L\B\ is high. The first word written into an empty FIFO B is sent directly to the FIFO B data outputs.", 69 UNCKA (in) "FIFO A unload clock. Data is read from FIFO A on a low-to-high transition of UNCKA when E\M\P\T\Y\A\ is high.", 70 ~{EMPTYA} (out) "FIFO A empty flag. E\M\P\T\Y\A\ is low when FIFO A is empty and high when FIFO A is not empty. E\M\P\T\Y\A\ is set low after FIFO A is reset.", 75 ~{EMPTYB} (out) "FIFO B empty flag. E\M\P\T\Y\B\ is low when FIFO B is empty and high when FIFO B is not empty. E\M\P\T\Y\B\ is set low after FIFO B is reset.", 76 UNCKB (in) "FIFO B unload clock. Data is read from FIFO B on a low-to-high transition of UNCKB when E\M\P\T\Y\B\ is high.", 77 LDCKA (in) "FIFO A load clock. Data is written into FIFO A on a low-to-high transition of LDCKA when F\U\L\L\A\ is high. The first word written into an empty FIFO A is sent directly to the FIFO A data outputs.", 79 SBA (in) "Port-A read select. SBA selects the source of A0-A17 read data. A low level selects real-time data from B0 - B17. A high level selects the FIFO B output.", 80 GBA (in) "Port-A output enable. A0-A17 outputs are active when GBA is high and in the high-impedance state when GBA is low."
part B pins: 6 GND (power), 9 VCC (power), 12 GND (power), 15 GND (power), 18 GND (power), 21 VCC (power), 24 GND (power), 27 VCC (power), 30 GND (power), 35 GND (power), 38 VCC (power), 41 GND (power), 44 VCC (power), 47 GND (power), 50 GND (power), 53 GND (power), 56 VCC (power), 59 GND (power), 67 GND (power), 71 VCC (power), 72 VCC (power), 73 VCC (power), 74 VCC (power), 78 GND (power)